# EAGLE library part LTC4362 (library OSSI)
LTC4362-1/LTC4362-2 1.2A Overvoltage/ Overcurrent Protector
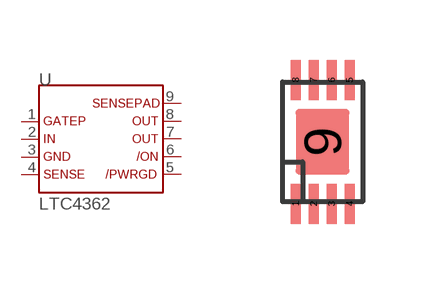
[diagram p45: symbol with the pads of DFN8-2X3; footprint DFN8-2X3]

Designator prefix U

## LTC4362-1  [DFN8-2X3]
1  P$1
2  P$2
3  P$3
4  P$4
5  P$5
6  P$6
7  P$7
8  P$8
9  P$9

## Footprint DFN8-2X3 (pad centres in mm)
smd 0.25 x 1: 1 -0.675,-1.55; 2 -0.225,-1.55; 3 0.225,-1.55; 4 0.675,-1.55; 5 0.675,1.55; 6 0.225,1.55; 7 -0.225,1.55; 8 -0.675,1.55
smd 1.35 x 1.65: 9 0,0